# Altium footprint library SKA20B05.PcbLib: 1 footprints
Each footprint in its own frame and in the unit in brackets; x right, y up, seen from the top. Pads: shape width x height; smd on the part's side, far side on the other; paste and mask are expansions set on the pad; w line width, h text height; cw(c..) or ccw(c..) is an arc to the next point about the centre after c.
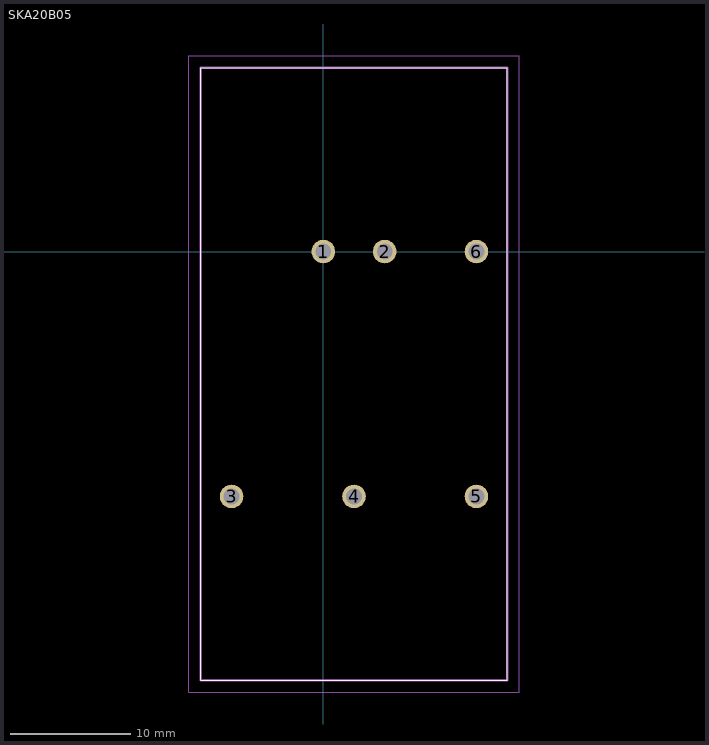
[diagram p0: the footprint, top view; thin cyan lines are the x and y axes]

## SKA20B05 [mm]
pads (6):
  round 1.95 hole 1.3: 1(0,0) 2(5.08,0) 3(-7.62,-20.32) 4(2.54,-20.32) 5(12.7,-20.32) 6(12.7,0)
Top Overlay:
  lines w0.1: -10.16,-35.56 15.24,-35.56 15.24,15.24 -10.16,15.24 -10.16,-35.56
Mechanical 15:
  lines w0.2: -10.16,-35.56 15.24,-35.56 15.24,15.24 -10.16,15.24 -10.16,-35.56
Mechanical 20:
  lines w0.1: -11.16,-36.56 16.24,-36.56 16.24,16.24 -11.16,16.24 -11.16,-36.56
3D body "SKA20B-05.STEP": height 11.2, standoff -5.8, extent -10.16,-35.56 15.24,15.24